# Altium footprint library Header 5.08 x 2.PcbLib: 1 footprints
Each footprint in its own frame and in the unit in brackets; x right, y up, seen from the top. Pads: shape width x height; smd on the part's side, far side on the other; paste and mask are expansions set on the pad; w line width, h text height; cw(c..) or ccw(c..) is an arc to the next point about the centre after c.
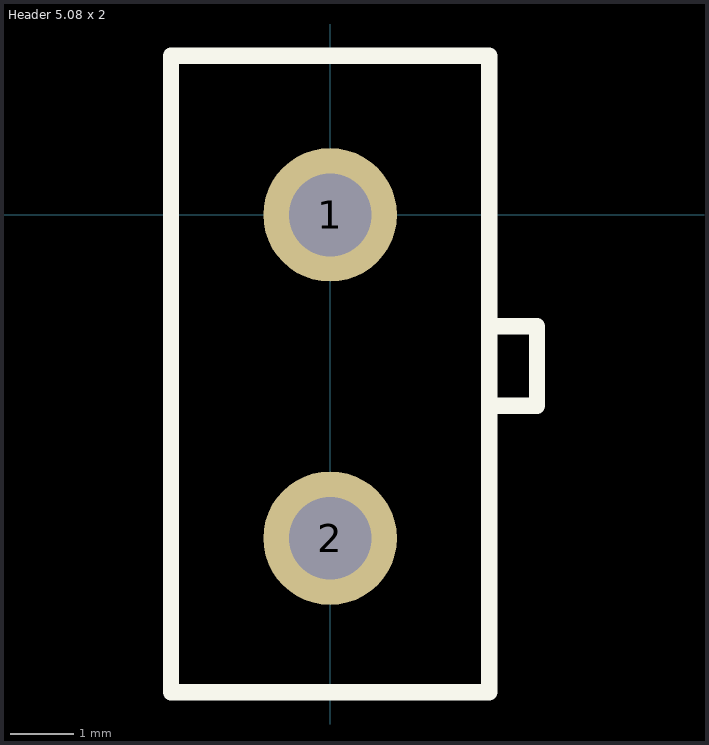
[diagram p0: the footprint, top view; thin cyan lines are the x and y axes]

## Header 5.08 x 2 [mm]
pads (2):
  round 2.1 hole 1.3: 1(0,0) 2(0,-5.08)
Top Overlay:
  lines w0.254: 2.5,-3 3.25,-3 3.25,-1.75 2.5,-1.75 ; -2.5,-7.5 2.5,-7.5 2.5,2.5 -2.5,2.5 -2.5,-7.5
3D body "header 5.08 x2.step": height 9.07, standoff -2.95, extent -4,-6.233 3.4,1.733